# EAGLE library part TPS62086RLTR (library TPS62086RLTR)
Switching Voltage Regulators 3A SD Cnvtr w/ DCS-Control Source: Datasheet <https://www.ti.com/lit/ds/symlink/tps62086.pdf?HQS=dis-mous-null-mousermode-dsf-pf-null-wwe&ts=1657633216371&ref_url=https%3A%2F%2Fwww.mouser.de%2F>
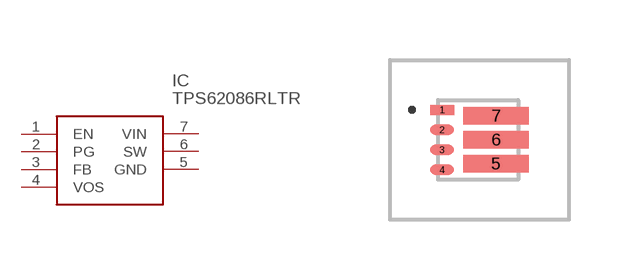
[diagram p0: symbol with the pads of TPS62086RLTR; footprint TPS62086RLTR]

Designator prefix IC

## TPS62086RLTR (Arrow_Part_Number: TPS62086RLTR; Arrow_Price-Stock: https://www.arrow.com/en/products/tps62086rltr/texas-instruments?utm_currency=USD&region=nac; Description: Switching Voltage Regulators 3A SD Cnvtr w/ DCS-Control; Height: 1mm; Manufacturer_Name: Texas Instruments; Manufacturer_Part_Number: TPS62086RLTR; Mouser_Part_Number: 595-TPS62086RLTR; Mouser_Price-Stock: https://www.mouser.co.uk/ProductDetail/Texas-Instruments/TPS62086RLTR?qs=gNSudQoqUYDJjodQ1zmrAg%3D%3D)  [TPS62086RLTR]
1  EN
2  PG
3  FB
4  VOS
5  GND
6  SW
7  VIN

## Footprint TPS62086RLTR (pad centres in mm)
TPS62086RLTR-2
smd 0.6 x 0.25: 1 -0.9,0.75; 2 -0.9,0.25; 3 -0.9,-0.25; 4 -0.9,-0.75
smd 1.64 x 0.44: 5 0.45,-0.6; 6 0.45,0; 7 0.45,0.6